# EAGLE library part REFLECTANCE_SENSOR_ARRAY (library Pololu Zumo Reflectance Sensor Array)
Zumo Reflectance Sensor Array Item #1419
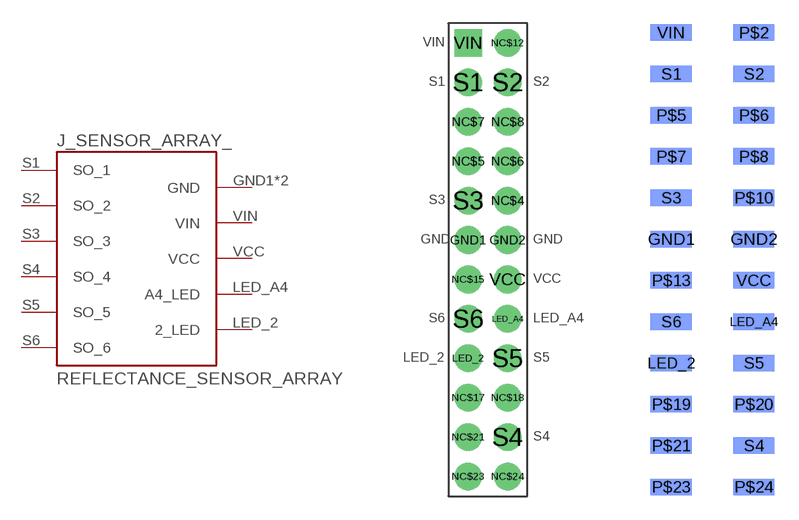
[diagram p0: symbol with the pads of REFLECTANCE_SENSOR_ARRAY_FOOTPRINT; footprints REFLECTANCE_SENSOR_ARRAY_FOOTPRINT, REFLECTANCE_SENSOR_ARRAY_FOOTPRINT_SMD_BOTTOM]

Designator prefix J_SENSOR_ARRAY_

## REFLECTANCE_SENSOR_ARRAY  [REFLECTANCE_SENSOR_ARRAY_FOOTPRINT]
GND1  GND
GND2  GND
LED_2  2_LED
LED_A4  A4_LED
S1  SO_1
S2  SO_2
S3  SO_3
S4  SO_4
S5  SO_5
S6  SO_6
VCC  VCC
VIN  VIN

## REFLECTANCE_SENSOR_ARRAYSMD_BOTTOM  [REFLECTANCE_SENSOR_ARRAY_FOOTPRINT_SMD_BOTTOM]
Pads as for REFLECTANCE_SENSOR_ARRAY_FOOTPRINT

## Footprint REFLECTANCE_SENSOR_ARRAY_FOOTPRINT (pad centres in mm)
Zumo Reflectance Sensor Array Item #1419 Footprint
drill 0.9 pad 1.778: GND1 -1.27,0; GND2 1.27,0; LED_2 -1.27,-7.62; LED_A4 1.27,-5.08; NC$4 1.27,2.54; NC$5 -1.27,5.08; NC$6 1.27,5.08; NC$7 -1.27,7.62; NC$8 1.27,7.62; NC$12 1.27,12.7; NC$15 -1.27,-2.54; NC$17 -1.27,-10.16; NC$18 1.27,-10.16; NC$21 -1.27,-12.7; NC$23 -1.27,-15.24; NC$24 1.27,-15.24; S1 -1.27,10.16; S2 1.27,10.16; S3 -1.27,2.54; S4 1.27,-12.7; S5 1.27,-7.62; S6 -1.27,-5.08; VCC 1.27,-2.54
drill 0.9 pad 1.778 square: VIN -1.27,12.7

## Footprint REFLECTANCE_SENSOR_ARRAY_FOOTPRINT_SMD_BOTTOM (pad centres in mm)
smd 2.54 x 1.016 bottom: GND1 -2.54,0; GND2 2.54,0; LED_2 -2.54,-7.62; LED_A4 2.54,-5.08; P$2 2.54,12.7; P$5 -2.54,7.62; P$6 2.54,7.62; P$7 -2.54,5.08; P$8 2.54,5.08; P$10 2.54,2.54; P$13 -2.54,-2.54; P$19 -2.54,-10.16; P$20 2.54,-10.16; P$21 -2.54,-12.7; P$23 -2.54,-15.24; P$24 2.54,-15.24; S1 -2.54,10.16; S2 2.54,10.16; S3 -2.54,2.54; S4 2.54,-12.7; S5 2.54,-7.62; S6 -2.54,-5.08; VCC 2.54,-2.54; VIN -2.54,12.7